# Altium footprint library con-3m.PCBLIB: 62 footprints (part 1 of 5)
Each footprint in its own frame and in the unit in brackets; x right, y up, seen from the top. Pads: shape width x height; smd on the part's side, far side on the other; paste and mask are expansions set on the pad; w line width, h text height; cw(c..) or ccw(c..) is an arc to the next point about the centre after c.
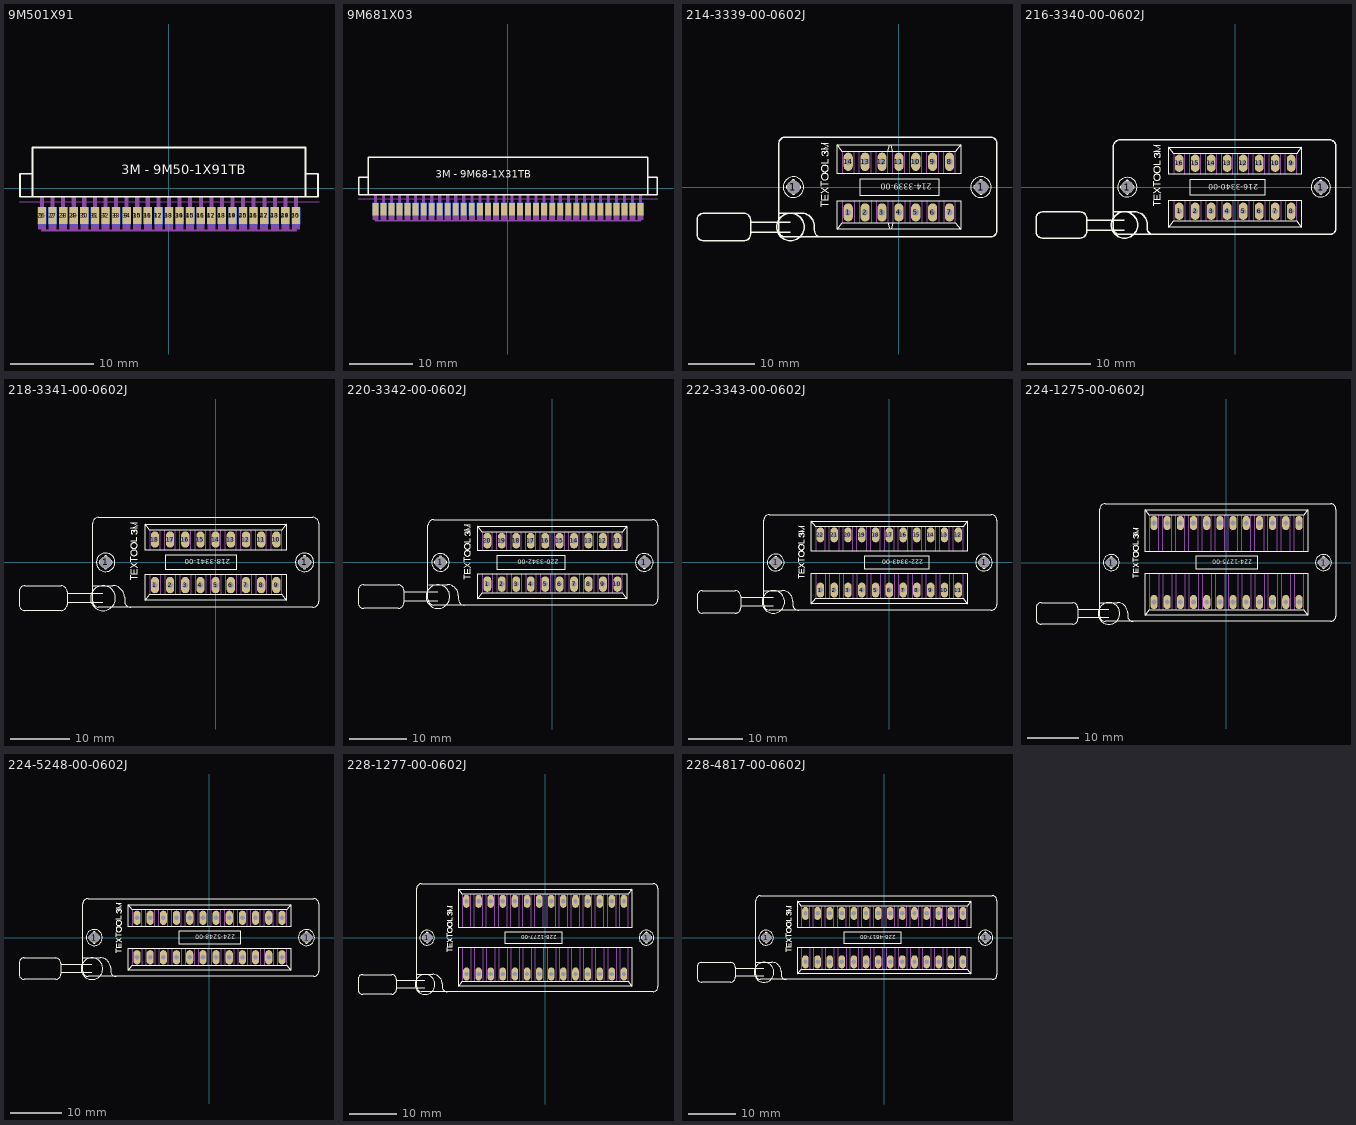
[diagram p0: the footprints below, top view; thin cyan lines are the x and y axes]

## 9M501X91 [mil]
pads (50):
  rect 39x80 smd: 1(-600,-129.53) 2(-550,-129.53) 3(-500,-129.53) 4(-450,-129.53) 5(-400,-129.53) 6(-350,-129.53) 7(-300,-129.53) 8(-250,-129.53) 9(-200,-129.53) 10(-150,-129.53) 11(-100,-129.53) 12(-50,-129.53) 13(0,-129.53) 14(50,-129.53) 15(100,-129.53) 16(150,-129.53) 17(200,-129.53) 18(250,-129.53) 19(300,-129.53) 20(350,-129.53) 21(400,-129.53) 22(450,-129.53) 23(500,-129.53) 24(550,-129.53) 25(600,-129.53)
  rect 39x80 smd far side: 26(-600,-129.53) 27(-550,-129.53) 28(-500,-129.53) 29(-450,-129.53) 30(-400,-129.53) 31(-350,-129.53) 32(-300,-129.53) 33(-250,-129.53) 34(-200,-129.53) 35(-150,-129.53) 36(-100,-129.53) 37(-50,-129.53) 38(0,-129.53) 39(50,-129.53) 40(100,-129.53) 41(150,-129.53) 42(200,-129.53) 43(250,-129.53) 44(300,-129.53) 45(350,-129.53) 46(400,-129.53) 47(450,-129.53) 48(500,-129.53) 49(550,-129.53) 50(600,-129.53)
Top Overlay:
  lines w8: -703.54,-39.76 -703.54,69 ; -702.76,-39.76 -644.49,-39.76 ; -702.76,69 -644.49,69 ; -644.49,193 -644.49,69 ; -643.7,193 644,193 ; 645,193 645,69 ; 703,-39.76 645,-39.76 ; 703,69 645,69 ; 704,-39.76 704,69 ; -644.49,-39.76 645,-39.76 ; -644.49,-39.76 -644.49,69 ; 645,-39.76 645,69
  text "3M - 9M50-1X91TB" at -225,50 h77.5
Mechanical 14:
  lines w2: -708.66,-63.78 709,-63.78
Mechanical 16:
  rectangle: -609.84,-169.69 -590.16,-41.73
  rectangle: -559.84,-169.69 -540.16,-41.73
  rectangle: -509.84,-169.69 -490.16,-41.73
  rectangle: -459.84,-169.69 -440.16,-41.73
  rectangle: -409.84,-169.69 -390.16,-41.73
  rectangle: -359.84,-169.69 -340.16,-41.73
  rectangle: -309.84,-169.69 -290.16,-41.73
  rectangle: -259.84,-169.69 -240.16,-41.73
  rectangle: -209.84,-169.69 -190.16,-41.73
  rectangle: -159.84,-169.69 -140.16,-41.73
  rectangle: -109.84,-169.69 -90.16,-41.73
  rectangle: -59.84,-169.69 -40.16,-41.73
  rectangle: -9.84,-169.69 10,-41.73
  rectangle: 41,-169.69 60,-41.73
  rectangle: 91,-169.69 110,-41.73
  rectangle: 141,-169.69 160,-41.73
  rectangle: 191,-169.69 210,-41.73
  rectangle: 241,-169.69 260,-41.73
  rectangle: 291,-169.69 310,-41.73
  rectangle: 341,-169.69 360,-41.73
  rectangle: 391,-169.69 410,-41.73
  rectangle: 441,-169.69 460,-41.73
  rectangle: 491,-169.69 510,-41.73
  rectangle: 541,-169.69 560,-41.73
  rectangle: 591,-169.69 610,-41.73
Mechanical 23:
  rectangle: -619,-196 -581,-90
  rectangle: -569,-196 -531,-90
  rectangle: -519,-196 -481,-90
  rectangle: -469,-196 -431,-90
  rectangle: -419,-196 -381,-90
  rectangle: -369,-196 -331,-90
  rectangle: -319,-196 -281,-90
  rectangle: -269,-196 -231,-90
  rectangle: -219,-196 -181,-90
  rectangle: -169,-196 -131,-90
  rectangle: -119,-196 -81,-90
  rectangle: -69,-196 -31,-90
  rectangle: -19,-196 19,-90
  rectangle: 31,-196 69,-90
  rectangle: 81,-196 119,-90
  rectangle: 131,-196 169,-90
  rectangle: 181,-196 219,-90
  rectangle: 231,-196 269,-90
  rectangle: 281,-196 319,-90
  rectangle: 331,-196 369,-90
  rectangle: 381,-196 419,-90
  rectangle: 431,-196 469,-90
  rectangle: 481,-196 519,-90
  rectangle: 531,-196 569,-90
  rectangle: 581,-196 619,-90
  lines w10: -600,-200 600,-200
Mechanical 24:
  rectangle: -619,-196 -581,-90
  rectangle: -569,-196 -531,-90
  rectangle: -519,-196 -481,-90
  rectangle: -469,-196 -431,-90
  rectangle: -419,-196 -381,-90
  rectangle: -369,-196 -331,-90
  rectangle: -319,-196 -281,-90
  rectangle: -269,-196 -231,-90
  rectangle: -219,-196 -181,-90
  rectangle: -169,-196 -131,-90
  rectangle: -119,-196 -81,-90
  rectangle: -69,-196 -31,-90
  rectangle: -19,-196 19,-90
  rectangle: 31,-196 69,-90
  rectangle: 81,-196 119,-90
  rectangle: 131,-196 169,-90
  rectangle: 181,-196 219,-90
  rectangle: 231,-196 269,-90
  rectangle: 281,-196 319,-90
  rectangle: 331,-196 369,-90
  rectangle: 381,-196 419,-90
  rectangle: 431,-196 469,-90
  rectangle: 481,-196 519,-90
  rectangle: 531,-196 569,-90
  rectangle: 581,-196 619,-90
  lines w10: -600,-200 600,-200
Mechanical 30:
  rectangle: -609.84,-169.69 -590.16,-41.73
  rectangle: -559.84,-169.69 -540.16,-41.73
  rectangle: -509.84,-169.69 -490.16,-41.73
  rectangle: -459.84,-169.69 -440.16,-41.73
  rectangle: -409.84,-169.69 -390.16,-41.73
  rectangle: -359.84,-169.69 -340.16,-41.73
  rectangle: -309.84,-169.69 -290.16,-41.73
  rectangle: -259.84,-169.69 -240.16,-41.73
  rectangle: -209.84,-169.69 -190.16,-41.73
  rectangle: -159.84,-169.69 -140.16,-41.73
  rectangle: -109.84,-169.69 -90.16,-41.73
  rectangle: -59.84,-169.69 -40.16,-41.73
  rectangle: -9.84,-169.69 10,-41.73
  rectangle: 41,-169.69 60,-41.73
  rectangle: 91,-169.69 110,-41.73
  rectangle: 141,-169.69 160,-41.73
  rectangle: 191,-169.69 210,-41.73
  rectangle: 241,-169.69 260,-41.73
  rectangle: 291,-169.69 310,-41.73
  rectangle: 341,-169.69 360,-41.73
  rectangle: 391,-169.69 410,-41.73
  rectangle: 441,-169.69 460,-41.73
  rectangle: 491,-169.69 510,-41.73
  rectangle: 541,-169.69 560,-41.73
  rectangle: 591,-169.69 610,-41.73

## 9M681X03 [mil]
pads (68):
  rect 36x80 smd: 1(-825,-129.53) 2(-775,-129.53) 3(-725,-129.53) 4(-675,-129.53) 5(-625,-129.53) 6(-575,-129.53) 7(-525,-129.53) 8(-475,-129.53) 9(-425,-129.53) 10(-375,-129.53) 11(-325,-129.53) 12(-275,-129.53) 13(-225,-129.53) 14(-175,-129.53) 15(-125,-129.53) 16(-75,-129.53) 17(-25,-129.53) 18(25,-129.53) 19(75,-129.53) 20(125,-129.53) 21(175,-129.53) 22(225,-129.53) 23(275,-129.53) 24(325,-129.53) 25(375,-129.53) 26(425,-129.53) 27(475,-129.53) 28(525,-129.53) 29(575,-129.53) 30(625,-129.53) 31(675,-129.53) 32(725,-129.53) 33(775,-129.53) 34(825,-129.53)
  rect 36x80 smd far side: 35(-825,-129.53) 36(-775,-129.53) 37(-725,-129.53) 38(-675,-129.53) 39(-625,-129.53) 40(-575,-129.53) 41(-525,-129.53) 42(-475,-129.53) 43(-425,-129.53) 44(-375,-129.53) 45(-325,-129.53) 46(-275,-129.53) 47(-225,-129.53) 48(-175,-129.53) 49(-125,-129.53) 50(-75,-129.53) 51(-25,-129.53) 52(25,-129.53) 53(75,-129.53) 54(125,-129.53) 55(175,-129.53) 56(225,-129.53) 57(275,-129.53) 58(325,-129.53) 59(375,-129.53) 60(425,-129.53) 61(475,-129.53) 62(525,-129.53) 63(575,-129.53) 64(625,-129.53) 65(675,-129.53) 66(725,-129.53) 67(775,-129.53) 68(825,-129.53)
Top Overlay:
  lines w8: -928.54,-39.76 -928.54,69 ; -927.76,-39.76 -869.49,-39.76 ; -927.76,69 -869.49,69 ; -869.49,193 -869.49,69 ; -868.7,193 869,193 ; 870,193 870,69 ; 928,-39.76 870,-39.76 ; 928,69 870,69 ; 929,-39.76 929,69 ; -869.49,-39.76 870,-39.76 ; -869.49,-39.76 -869.49,69 ; 870,-39.76 870,69
  text "3M - 9M68-1X31TB" at -450,50 h77.5
Mechanical 14:
  lines w2: -933.66,-63.78 934,-63.78
Mechanical 16:
  rectangle: -834.84,-169.69 -815.16,-41.73
  rectangle: -784.84,-169.69 -765.16,-41.73
  rectangle: -734.84,-169.69 -715.16,-41.73
  rectangle: -684.84,-169.69 -665.16,-41.73
  rectangle: -634.84,-169.69 -615.16,-41.73
  rectangle: -584.84,-169.69 -565.16,-41.73
  rectangle: -534.84,-169.69 -515.16,-41.73
  rectangle: -484.84,-169.69 -465.16,-41.73
  rectangle: -434.84,-169.69 -415.16,-41.73
  rectangle: -384.84,-169.69 -365.16,-41.73
  rectangle: -334.84,-169.69 -315.16,-41.73
  rectangle: -284.84,-169.69 -265.16,-41.73
  rectangle: -234.84,-169.69 -215.16,-41.73
  rectangle: -184.84,-169.69 -165.16,-41.73
  rectangle: -134.84,-169.69 -115.16,-41.73
  rectangle: -84.84,-169.69 -65.16,-41.73
  rectangle: -34.84,-169.69 -15.16,-41.73
  rectangle: 16,-169.69 35,-41.73
  rectangle: 66,-169.69 85,-41.73
  rectangle: 116,-169.69 135,-41.73
  rectangle: 166,-169.69 185,-41.73
  rectangle: 216,-169.69 235,-41.73
  rectangle: 266,-169.69 285,-41.73
  rectangle: 316,-169.69 335,-41.73
  rectangle: 366,-169.69 385,-41.73
  rectangle: 416,-169.69 435,-41.73
  rectangle: 466,-169.69 485,-41.73
  rectangle: 516,-169.69 535,-41.73
  rectangle: 566,-169.69 585,-41.73
  rectangle: 616,-169.69 635,-41.73
  rectangle: 666,-169.69 685,-41.73
  rectangle: 716,-169.69 735,-41.73
  rectangle: 766,-169.69 785,-41.73
  rectangle: 816,-169.69 835,-41.73
Mechanical 23:
  rectangle: -844,-196 -806,-90
  rectangle: -794,-196 -756,-90
  rectangle: -744,-196 -706,-90
  rectangle: -694,-196 -656,-90
  rectangle: -644,-196 -606,-90
  rectangle: -594,-196 -556,-90
  rectangle: -544,-196 -506,-90
  rectangle: -494,-196 -456,-90
  rectangle: -444,-196 -406,-90
  rectangle: -394,-196 -356,-90
  rectangle: -344,-196 -306,-90
  rectangle: -294,-196 -256,-90
  rectangle: -244,-196 -206,-90
  rectangle: -194,-196 -156,-90
  rectangle: -144,-196 -106,-90
  rectangle: -94,-196 -56,-90
  rectangle: -44,-196 -6,-90
  rectangle: 6,-196 44,-90
  rectangle: 56,-196 94,-90
  rectangle: 106,-196 144,-90
  rectangle: 156,-196 194,-90
  rectangle: 206,-196 244,-90
  rectangle: 256,-196 294,-90
  rectangle: 306,-196 344,-90
  rectangle: 356,-196 394,-90
  rectangle: 406,-196 444,-90
  rectangle: 456,-196 494,-90
  rectangle: 506,-196 544,-90
  rectangle: 556,-196 594,-90
  rectangle: 606,-196 644,-90
  rectangle: 656,-196 694,-90
  rectangle: 706,-196 744,-90
  rectangle: 756,-196 794,-90
  rectangle: 806,-196 844,-90
  lines w10: -825,-200 825,-200
Mechanical 24:
  rectangle: -844,-196 -806,-90
  rectangle: -794,-196 -756,-90
  rectangle: -744,-196 -706,-90
  rectangle: -694,-196 -656,-90
  rectangle: -644,-196 -606,-90
  rectangle: -594,-196 -556,-90
  rectangle: -544,-196 -506,-90
  rectangle: -494,-196 -456,-90
  rectangle: -444,-196 -406,-90
  rectangle: -394,-196 -356,-90
  rectangle: -344,-196 -306,-90
  rectangle: -294,-196 -256,-90
  rectangle: -244,-196 -206,-90
  rectangle: -194,-196 -156,-90
  rectangle: -144,-196 -106,-90
  rectangle: -94,-196 -56,-90
  rectangle: -44,-196 -6,-90
  rectangle: 6,-196 44,-90
  rectangle: 56,-196 94,-90
  rectangle: 106,-196 144,-90
  rectangle: 156,-196 194,-90
  rectangle: 206,-196 244,-90
  rectangle: 256,-196 294,-90
  rectangle: 306,-196 344,-90
  rectangle: 356,-196 394,-90
  rectangle: 406,-196 444,-90
  rectangle: 456,-196 494,-90
  rectangle: 506,-196 544,-90
  rectangle: 556,-196 594,-90
  rectangle: 606,-196 644,-90
  rectangle: 656,-196 694,-90
  rectangle: 706,-196 744,-90
  rectangle: 756,-196 794,-90
  rectangle: 806,-196 844,-90
  lines w10: -825,-200 825,-200
Mechanical 30:
  rectangle: 816,-169.69 835,-41.73
  rectangle: 766,-169.69 785,-41.73
  rectangle: 716,-169.69 735,-41.73
  rectangle: 666,-169.69 685,-41.73
  rectangle: 616,-169.69 635,-41.73
  rectangle: 566,-169.69 585,-41.73
  rectangle: 516,-169.69 535,-41.73
  rectangle: 466,-169.69 485,-41.73
  rectangle: 416,-169.69 435,-41.73
  rectangle: 366,-169.69 385,-41.73
  rectangle: 316,-169.69 335,-41.73
  rectangle: 266,-169.69 285,-41.73
  rectangle: 216,-169.69 235,-41.73
  rectangle: 166,-169.69 185,-41.73
  rectangle: 116,-169.69 135,-41.73
  rectangle: 66,-169.69 85,-41.73
  rectangle: 16,-169.69 35,-41.73
  rectangle: -34.84,-169.69 -15.16,-41.73
  rectangle: -84.84,-169.69 -65.16,-41.73
  rectangle: -134.84,-169.69 -115.16,-41.73
  rectangle: -184.84,-169.69 -165.16,-41.73
  rectangle: -234.84,-169.69 -215.16,-41.73
  rectangle: -284.84,-169.69 -265.16,-41.73
  rectangle: -334.84,-169.69 -315.16,-41.73
  rectangle: -384.84,-169.69 -365.16,-41.73
  rectangle: -434.84,-169.69 -415.16,-41.73
  rectangle: -484.84,-169.69 -465.16,-41.73
  rectangle: -534.84,-169.69 -515.16,-41.73
  rectangle: -584.84,-169.69 -565.16,-41.73
  rectangle: -634.84,-169.69 -615.16,-41.73
  rectangle: -684.84,-169.69 -665.16,-41.73
  rectangle: -734.84,-169.69 -715.16,-41.73
  rectangle: -784.84,-169.69 -765.16,-41.73
  rectangle: -834.84,-169.69 -815.16,-41.73

## 214-3339-00-0602J [mil]
pads (16):
  round 79 hole 79: 1(-624.02,0) 1(487,0)
  oval 54x108 hole 36: 1(-300,-150) 2(-200,-150) 3(-100,-150) 4(0,-150) 5(100,-150) 6(200,-150) 7(300,-150) 8(300,150) 9(200,150) 10(100,150) 11(0,150) 12(-100,150) 13(-200,150) 14(-300,150)
Top Overlay:
  circle w4: c-624.41,0 r61
  circle w8: c-641.73,-236.22 r82
  circle w4: c486,0 r61
  lines w4: -633.86,-11.81 ccw(c-636.61,-11.81) -636.61,-9.06 -657.87,-9.06 cw(c-657.87,0) -666.93,0 cw(c-657.4,0.47) -657.87,10 -636.22,10 ccw(c-635.84,12.38) -633.46,12 ; -633.46,-11.81 -633.46,-33.46 ccw(c-624.41,-33.46) -624.41,-42.52 ccw(c-624.41,-33.46) -615.35,-33.46 -615.35,-12.2 ; -633.46,13 -633.46,34 cw(c-624.44,33.97) -624.41,43 cw(c-624.38,33.97) -615.35,34 -615.35,12 ccw(c-612.98,12.38) -612.6,10 ; -615.35,-11.81 cw(c-612.6,-11.81) -612.6,-9.06 -590.94,-9.06 ccw(c-590.94,0) -581.89,0 ccw(c-591.42,0.47) -590.94,10 -612.2,10 ; -459.45,143 -418.11,143 -418.11,165 ; -458.66,-115.75 -458.66,-84.65 ; -458.66,-46.46 -458.66,-74.02 -417.72,-74.02 -417.72,-45.28 ; -458.66,-33.07 -417.72,-4.72 ; -458.66,-4.72 -417.72,-33.07 ; -458.66,5 -458.66,36 ; -458.27,-100 -417.72,-100 ; -457.87,21 -417.72,21 ; -447.24,188 cw(c-444.51,200.38) -457.09,202 cw(c-448.77,200.56) -452.76,208 cw(c-446.45,198) -442.13,209 cw(c-445.01,201.96) -437.4,202 ; -438.58,-72.44 -438.58,-48.82 ; -437.4,199 -437.4,202 ; -426.77,187 ccw(c-426.47,195.96) -417.72,194 ccw(c-441.96,199.2) -417.32,202 ccw(c-429.13,200.78) -421.65,210 ccw(c-427.17,202) -432.68,210 ccw(c-428.04,201.87) -437.4,202 ; -417.72,223 -458.27,223 -417.72,242 -458.66,261 -417.72,261 ; 477,12 cw(c475,12) 475,10 453,10 ccw(c453.5,0.5) 444,0 ccw(c453.03,-0.03) 453,-9.06 474,-9.06 cw(c474.12,-11.93) 477,-11.81 477,-33.46 ccw(c486.03,-33.49) 486,-42.52 ccw(c485.97,-33.49) 495,-33.46 495,-12.2 ; 477,13 477,34 cw(c486,34) 486,43 cw(c486,34) 495,34 495,12 ccw(c497.5,12.5) 498,10 ; 495,-11.81 cw(c497.88,-11.93) 498,-9.06 520,-9.06 ccw(c519.97,-0.03) 529,0 ccw(c519.5,0.5) 520,10 499,10 ; -365,-250 -55,-250 ; -365,-250 -365,-80 365,-80 365,-250 ; -365,-250 -335,-210 -65,-210 ; -365,250 -365,80 365,80 365,250 ; -365,250 -55,250 ; -365,250 -335,210 -65,210 ; -65,-210 -35,-210 ; -65,-210 -55,-250 ; -65,210 -35,210 ; -65,210 -55,250 ; -55,-250 -45,-250 ; -55,250 -45,250 ; -45,-250 365,-250 ; -45,-250 -35,-210 ; -45,250 365,250 ; -45,250 -35,210 ; -35,-210 335,-210 365,-250 ; -35,210 335,210 365,250 ; -440.55,44 cw(c-440.55,62.5) -440.55,81 -435.43,81 cw(c-435.43,62.5) -435.43,44 -440.55,44 ; -440.55,92 cw(c-440.55,110.5) -440.55,129 -435.43,129 cw(c-435.43,110.5) -435.43,92 -440.55,92 ; -230,-50 235,-50 235,50 -230,50 -230,-50
  lines w8: -876.38,-267.72 -643.7,-267.72 ; -876.38,-206.69 -643.7,-206.69 ; -706.69,-153.54 -578.74,-153.54 cw(c-578.74,-232.31) -500,-230.31 -500,-255.91 ccw(c-460.58,-255.91) -458.66,-295.28 ; -1195.28,-278.35 -1195.28,-194.09 cw(c-1155.91,-194.09) -1155.91,-154.72 -917.72,-154.72 cw(c-917.72,-194.09) -878.35,-194.09 -878.35,-278.35 cw(c-917.72,-278.35) -917.72,-317.72 -1155.91,-317.72 cw(c-1155.91,-278.35) -1195.28,-278.35 ; -711.02,-255.91 ccw(c-671.65,-255.91) -671.65,-295.28 541,-295.28 ccw(c541.32,-255.59) 581,-255.91 581,256 ccw(c541,256) 541,296 -671.65,296 ccw(c-671.34,256.31) -711.02,256 -711.02,-255.91
  text "214-3339-00" at 195,20 h34
Mechanical 16:
  lines w4: -335,-210 -335,-80 ; -335,80 -335,210 ; -265,-210 -265,-80 ; -265,80 -265,210 ; -235,-210 -235,-80 ; -235,80 -235,210 ; -165,-210 -165,-80 ; -165,80 -165,210 ; -135,-210 -135,-80 ; -135,80 -135,210 ; -65,-210 -65,-80 ; -65,80 -65,210 ; -35,-210 -35,-80 ; -35,80 -35,210 ; 35,-210 35,-80 ; 35,80 35,210 ; 65,-210 65,-80 ; 65,80 65,210 ; 135,-210 135,-80 ; 135,80 135,210 ; 165,-210 165,-80 ; 165,80 165,210 ; 235,-210 235,-80 ; 235,80 235,210 ; 265,-210 265,-80 ; 265,80 265,210 ; 335,-210 335,-80 ; 335,80 335,210

## 216-3340-00-0602J [mil]
pads (18):
  round 79 hole 79: 1(-674.02,0) 1(537,0)
  oval 54x108 hole 36: 1(-350,-150) 2(-250,-150) 3(-150,-150) 4(-50,-150) 5(50,-150) 6(150,-150) 7(250,-150) 8(350,-150) 9(350,150) 10(250,150) 11(150,150) 12(50,150) 13(-50,150) 14(-150,150) 15(-250,150) 16(-350,150)
Top Overlay:
  circle w4: c-674.41,0 r61
  circle w8: c-691.73,-236.22 r82
  circle w4: c536,0 r61
  lines w4: -683.86,-11.81 ccw(c-686.61,-11.81) -686.61,-9.06 -707.87,-9.06 cw(c-707.87,0) -716.93,0 cw(c-707.4,0.47) -707.87,10 -686.22,10 ccw(c-685.84,12.38) -683.46,12 ; -683.46,-11.81 -683.46,-33.46 ccw(c-674.41,-33.46) -674.41,-42.52 ccw(c-674.41,-33.46) -665.35,-33.46 -665.35,-12.2 ; -683.46,13 -683.46,34 cw(c-674.44,33.97) -674.41,43 cw(c-674.38,33.97) -665.35,34 -665.35,12 ccw(c-662.98,12.38) -662.6,10 ; -665.35,-11.81 cw(c-662.6,-11.81) -662.6,-9.06 -640.94,-9.06 ccw(c-640.94,0) -631.89,0 ccw(c-641.42,0.47) -640.94,10 -662.2,10 ; -509.45,143 -468.11,143 -468.11,165 ; -508.66,-115.75 -508.66,-84.65 ; -508.66,-46.46 -508.66,-74.02 -467.72,-74.02 -467.72,-45.28 ; -508.66,-33.07 -467.72,-4.72 ; -508.66,-4.72 -467.72,-33.07 ; -508.66,5 -508.66,36 ; -508.27,-100 -467.72,-100 ; -507.87,21 -467.72,21 ; -497.24,188 cw(c-494.51,200.38) -507.09,202 cw(c-498.77,200.56) -502.76,208 cw(c-496.45,197.98) -492.13,209 cw(c-495.01,201.96) -487.4,202 ; -488.58,-72.44 -488.58,-48.82 ; -487.4,199 -487.4,202 ; -476.77,187 ccw(c-476.46,195.96) -467.72,194 ccw(c-491.96,199.2) -467.32,202 ccw(c-479.13,200.78) -471.65,210 ccw(c-477.17,202.01) -482.68,210 ccw(c-478.04,201.87) -487.4,202 ; -467.72,223 -508.27,223 -467.72,242 -508.66,261 -467.72,261 ; 527,12 cw(c525,12) 525,10 503,10 ccw(c503.5,0.5) 494,0 ccw(c503.03,-0.03) 503,-9.06 524,-9.06 cw(c524.12,-11.93) 527,-11.81 527,-33.46 ccw(c536.03,-33.49) 536,-42.52 ccw(c535.97,-33.49) 545,-33.46 545,-12.2 ; 527,13 527,34 cw(c536,34) 536,43 cw(c536,34) 545,34 545,12 ccw(c547.5,12.5) 548,10 ; 545,-11.81 cw(c547.88,-11.93) 548,-9.06 570,-9.06 ccw(c569.97,-0.03) 579,0 ccw(c569.5,0.5) 570,10 549,10 ; -415,-250 415,-250 ; -415,-250 -415,-80 415,-80 415,-250 ; -415,-250 -385,-210 385,-210 415,-250 ; -415,250 -415,80 415,80 415,250 ; -415,250 415,250 ; -415,250 -385,210 385,210 415,250 ; -490.55,44 cw(c-490.55,62.5) -490.55,81 -485.43,81 cw(c-485.43,62.5) -485.43,44 -490.55,44 ; -490.55,92 cw(c-490.55,110.5) -490.55,129 -485.43,129 cw(c-485.43,110.5) -485.43,92 -490.55,92 ; -280,-50 185,-50 185,50 -280,50 -280,-50
  lines w8: -926.38,-267.72 -693.7,-267.72 ; -926.38,-206.69 -693.7,-206.69 ; -756.69,-153.54 -628.74,-153.54 cw(c-628.74,-232.31) -550,-230.31 -550,-255.91 ccw(c-510.58,-255.91) -508.66,-295.28 ; -1245.28,-278.35 -1245.28,-194.09 cw(c-1205.91,-194.09) -1205.91,-154.72 -967.72,-154.72 cw(c-967.72,-194.09) -928.35,-194.09 -928.35,-278.35 cw(c-967.72,-278.35) -967.72,-317.72 -1205.91,-317.72 cw(c-1205.91,-278.35) -1245.28,-278.35 ; -761.02,-255.91 ccw(c-721.65,-255.91) -721.65,-295.28 591,-295.28 ccw(c591.32,-255.59) 631,-255.91 631,256 ccw(c591,256) 591,296 -721.65,296 ccw(c-721.34,256.31) -761.02,256 -761.02,-255.91
  text "216-3340-00" at 145,20 h34
Mechanical 16:
  lines w4: -385,-210 -385,-80 ; -385,80 -385,210 ; -315,-210 -315,-80 ; -315,80 -315,210 ; -285,-210 -285,-80 ; -285,80 -285,210 ; -215,-210 -215,-80 ; -215,80 -215,210 ; -185,-210 -185,-80 ; -185,80 -185,210 ; -115,-210 -115,-80 ; -115,80 -115,210 ; -85,-210 -85,-80 ; -85,80 -85,210 ; -15,-210 -15,-80 ; -15,80 -15,210 ; 15,-210 15,-80 ; 15,80 15,210 ; 85,-210 85,-80 ; 85,80 85,210 ; 115,-210 115,-80 ; 115,80 115,210 ; 185,-210 185,-80 ; 185,80 185,210 ; 215,-210 215,-80 ; 215,80 215,210 ; 285,-210 285,-80 ; 285,80 285,210 ; 315,-210 315,-80 ; 315,80 315,210 ; 385,-210 385,-80 ; 385,80 385,210

## 218-3341-00-0602J [mil]
pads (20):
  round 79 hole 79: 1(-724.02,0) 1(587,0)
  oval 54x108 hole 36: 1(-400,-150) 2(-300,-150) 3(-200,-150) 4(-100,-150) 5(0,-150) 6(100,-150) 7(200,-150) 8(300,-150) 9(400,-150) 10(400,150) 11(300,150) 12(200,150) 13(100,150) 14(0,150) 15(-100,150) 16(-200,150) 17(-300,150) 18(-400,150)
Top Overlay:
  circle w4: c-724.41,0 r61
  circle w8: c-741.73,-236.22 r82
  circle w4: c586,0 r61
  lines w4: -733.86,-11.81 ccw(c-736.61,-11.81) -736.61,-9.06 -757.87,-9.06 cw(c-757.87,0) -766.93,0 cw(c-757.4,0.47) -757.87,10 -736.22,10 ccw(c-735.84,12.38) -733.46,12 ; -733.46,-11.81 -733.46,-33.46 ccw(c-724.41,-33.46) -724.41,-42.52 ccw(c-724.41,-33.46) -715.35,-33.46 -715.35,-12.2 ; -733.46,13 -733.46,34 cw(c-724.44,33.97) -724.41,43 cw(c-724.38,33.97) -715.35,34 -715.35,12 ccw(c-712.98,12.38) -712.6,10 ; -715.35,-11.81 cw(c-712.6,-11.81) -712.6,-9.06 -690.94,-9.06 ccw(c-690.94,0) -681.89,0 ccw(c-691.42,0.47) -690.94,10 -712.2,10 ; -559.45,143 -518.11,143 -518.11,165 ; -558.66,-115.75 -558.66,-84.65 ; -558.66,-46.46 -558.66,-74.02 -517.72,-74.02 -517.72,-45.28 ; -558.66,-33.07 -517.72,-4.72 ; -558.66,-4.72 -517.72,-33.07 ; -558.66,5 -558.66,36 ; -558.27,-100 -517.72,-100 ; -557.87,21 -517.72,21 ; -547.24,188 cw(c-544.51,200.38) -557.09,202 cw(c-548.77,200.56) -552.76,208 cw(c-546.45,197.98) -542.13,209 cw(c-545.01,201.96) -537.4,202 ; -538.58,-72.44 -538.58,-48.82 ; -537.4,199 -537.4,202 ; -526.77,187 ccw(c-526.46,195.96) -517.72,194 ccw(c-541.96,199.2) -517.32,202 ccw(c-529.13,200.78) -521.65,210 ccw(c-527.17,202.01) -532.68,210 ccw(c-528.04,201.87) -537.4,202 ; -517.72,223 -558.27,223 -517.72,242 -558.66,261 -517.72,261 ; 577,12 cw(c575,12) 575,10 553,10 ccw(c553.5,0.5) 544,0 ccw(c553.03,-0.03) 553,-9.06 574,-9.06 cw(c574.12,-11.93) 577,-11.81 577,-33.46 ccw(c586.03,-33.49) 586,-42.52 ccw(c585.97,-33.49) 595,-33.46 595,-12.2 ; 577,13 577,34 cw(c586,34) 586,43 cw(c586,34) 595,34 595,12 ccw(c597.5,12.5) 598,10 ; 595,-11.81 cw(c597.88,-11.93) 598,-9.06 620,-9.06 ccw(c619.97,-0.03) 629,0 ccw(c619.5,0.5) 620,10 599,10 ; -465,-250 465,-250 ; -465,-250 -465,-80 465,-80 465,-250 ; -465,-250 -435,-210 435,-210 465,-250 ; -465,250 -465,80 465,80 465,250 ; -465,250 465,250 ; -465,250 -435,210 435,210 465,250 ; -540.55,44 cw(c-540.55,62.5) -540.55,81 -535.43,81 cw(c-535.43,62.5) -535.43,44 -540.55,44 ; -540.55,92 cw(c-540.55,110.5) -540.55,129 -535.43,129 cw(c-535.43,110.5) -535.43,92 -540.55,92 ; -330,-50 135,-50 135,50 -330,50 -330,-50
  lines w8: -976.38,-267.72 -743.7,-267.72 ; -976.38,-206.69 -743.7,-206.69 ; -806.69,-153.54 -678.74,-153.54 cw(c-678.74,-232.31) -600,-230.31 -600,-255.91 ccw(c-560.58,-255.91) -558.66,-295.28 ; -1295.28,-278.35 -1295.28,-194.09 cw(c-1255.91,-194.09) -1255.91,-154.72 -1017.72,-154.72 cw(c-1017.72,-194.09) -978.35,-194.09 -978.35,-278.35 cw(c-1017.72,-278.35) -1017.72,-317.72 -1255.91,-317.72 cw(c-1255.91,-278.35) -1295.28,-278.35 ; -811.02,-255.91 ccw(c-771.65,-255.91) -771.65,-295.28 641,-295.28 ccw(c641.32,-255.59) 681,-255.91 681,256 ccw(c641,256) 641,296 -771.65,296 ccw(c-771.34,256.31) -811.02,256 -811.02,-255.91
  text "218-3341-00" at 95,20 h34
Mechanical 16:
  lines w4: -435,-210 -435,-80 ; -435,80 -435,210 ; -365,-210 -365,-80 ; -365,80 -365,210 ; -335,-210 -335,-80 ; -335,80 -335,210 ; -265,-210 -265,-80 ; -265,80 -265,210 ; -235,-210 -235,-80 ; -235,80 -235,210 ; -165,-210 -165,-80 ; -165,80 -165,210 ; -135,-210 -135,-80 ; -135,80 -135,210 ; -65,-210 -65,-80 ; -65,80 -65,210 ; -35,-210 -35,-80 ; -35,80 -35,210 ; 35,-210 35,-80 ; 35,80 35,210 ; 65,-210 65,-80 ; 65,80 65,210 ; 135,-210 135,-80 ; 135,80 135,210 ; 165,-210 165,-80 ; 165,80 165,210 ; 235,-210 235,-80 ; 235,80 235,210 ; 265,-210 265,-80 ; 265,80 265,210 ; 335,-210 335,-80 ; 335,80 335,210 ; 365,-210 365,-80 ; 365,80 365,210 ; 435,-210 435,-80 ; 435,80 435,210

## 220-3342-00-0602J [mil]
pads (22):
  round 79 hole 79: 1(-774.02,0) 1(637,0)
  oval 54x108 hole 36: 1(-450,-150) 2(-350,-150) 3(-250,-150) 4(-150,-150) 5(-50,-150) 6(50,-150) 7(150,-150) 8(250,-150) 9(350,-150) 10(450,-150) 11(450,150) 12(350,150) 13(250,150) 14(150,150) 15(50,150) 16(-50,150) 17(-150,150) 18(-250,150) 19(-350,150) 20(-450,150)
Top Overlay:
  circle w4: c-774.41,0 r61
  circle w8: c-791.73,-236.22 r82
  circle w4: c636,0 r61
  lines w4: -783.86,-11.81 ccw(c-786.61,-11.81) -786.61,-9.06 -807.87,-9.06 cw(c-807.87,0) -816.93,0 cw(c-807.4,0.47) -807.87,10 -786.22,10 ccw(c-785.84,12.38) -783.46,12 ; -783.46,-11.81 -783.46,-33.46 ccw(c-774.41,-33.46) -774.41,-42.52 ccw(c-774.41,-33.46) -765.35,-33.46 -765.35,-12.2 ; -783.46,13 -783.46,34 cw(c-774.44,33.97) -774.41,43 cw(c-774.38,33.97) -765.35,34 -765.35,12 ccw(c-762.98,12.38) -762.6,10 ; -765.35,-11.81 cw(c-762.6,-11.81) -762.6,-9.06 -740.94,-9.06 ccw(c-740.94,0) -731.89,0 ccw(c-741.42,0.47) -740.94,10 -762.2,10 ; -609.45,143 -568.11,143 -568.11,165 ; -608.66,-115.75 -608.66,-84.65 ; -608.66,-46.46 -608.66,-74.02 -567.72,-74.02 -567.72,-45.28 ; -608.66,-33.07 -567.72,-4.72 ; -608.66,-4.72 -567.72,-33.07 ; -608.66,5 -608.66,36 ; -608.27,-100 -567.72,-100 ; -607.87,21 -567.72,21 ; -597.24,188 cw(c-594.51,200.38) -607.09,202 cw(c-598.77,200.56) -602.76,208 cw(c-596.45,197.98) -592.13,209 cw(c-595.01,201.96) -587.4,202 ; -588.58,-72.44 -588.58,-48.82 ; -587.4,199 -587.4,202 ; -576.77,187 ccw(c-576.46,195.96) -567.72,194 ccw(c-591.96,199.2) -567.32,202 ccw(c-579.13,200.78) -571.65,210 ccw(c-577.17,202.01) -582.68,210 ccw(c-578.04,201.87) -587.4,202 ; -567.72,223 -608.27,223 -567.72,242 -608.66,261 -567.72,261 ; 627,12 cw(c625,12) 625,10 603,10 ccw(c603.5,0.5) 594,0 ccw(c603.03,-0.03) 603,-9.06 624,-9.06 cw(c624.12,-11.93) 627,-11.81 627,-33.46 ccw(c636.03,-33.49) 636,-42.52 ccw(c635.97,-33.49) 645,-33.46 645,-12.2 ; 627,13 627,34 cw(c636,34) 636,43 cw(c636,34) 645,34 645,12 ccw(c647.5,12.5) 648,10 ; 645,-11.81 cw(c647.88,-11.93) 648,-9.06 670,-9.06 ccw(c669.97,-0.03) 679,0 ccw(c669.5,0.5) 670,10 649,10 ; -515,-250 515,-250 ; -515,-250 -515,-80 515,-80 515,-250 ; -515,-250 -485,-210 485,-210 515,-250 ; -515,250 -515,80 515,80 515,250 ; -515,250 515,250 ; -515,250 -485,210 485,210 515,250 ; -590.55,44 cw(c-590.55,62.5) -590.55,81 -585.43,81 cw(c-585.43,62.5) -585.43,44 -590.55,44 ; -590.55,92 cw(c-590.55,110.5) -590.55,129 -585.43,129 cw(c-585.43,110.5) -585.43,92 -590.55,92 ; -380,-50 85,-50 85,50 -380,50 -380,-50
  lines w8: -1026.38,-267.72 -793.7,-267.72 ; -1026.38,-206.69 -793.7,-206.69 ; -856.69,-153.54 -728.74,-153.54 cw(c-728.74,-232.31) -650,-230.31 -650,-255.91 ccw(c-610.58,-255.91) -608.66,-295.28 ; -1345.28,-278.35 -1345.28,-194.09 cw(c-1305.91,-194.09) -1305.91,-154.72 -1067.72,-154.72 cw(c-1067.72,-194.09) -1028.35,-194.09 -1028.35,-278.35 cw(c-1067.72,-278.35) -1067.72,-317.72 -1305.91,-317.72 cw(c-1305.91,-278.35) -1345.28,-278.35 ; -861.02,-255.91 ccw(c-821.65,-255.91) -821.65,-295.28 691,-295.28 ccw(c691.32,-255.59) 731,-255.91 731,256 ccw(c691,256) 691,296 -821.65,296 ccw(c-821.34,256.31) -861.02,256 -861.02,-255.91
  text "220-3342-00" at 45,20 h34
Mechanical 16:
  lines w4: -485,-210 -485,-80 ; -485,80 -485,210 ; -415,-210 -415,-80 ; -415,80 -415,210 ; -385,-210 -385,-80 ; -385,80 -385,210 ; -315,-210 -315,-80 ; -315,80 -315,210 ; -285,-210 -285,-80 ; -285,80 -285,210 ; -215,-210 -215,-80 ; -215,80 -215,210 ; -185,-210 -185,-80 ; -185,80 -185,210 ; -115,-210 -115,-80 ; -115,80 -115,210 ; -85,-210 -85,-80 ; -85,80 -85,210 ; -15,-210 -15,-80 ; -15,80 -15,210 ; 15,-210 15,-80 ; 15,80 15,210 ; 85,-210 85,-80 ; 85,80 85,210 ; 115,-210 115,-80 ; 115,80 115,210 ; 185,-210 185,-80 ; 185,80 185,210 ; 215,-210 215,-80 ; 215,80 215,210 ; 285,-210 285,-80 ; 285,80 285,210 ; 315,-210 315,-80 ; 315,80 315,210 ; 385,-210 385,-80 ; 385,80 385,210 ; 415,-210 415,-80 ; 415,80 415,210 ; 485,-210 485,-80 ; 485,80 485,210

## 222-3343-00-0602J [mil]
pads (24):
  round 79 hole 79: 1(-824.02,0) 1(687,0)
  oval 54x108 hole 36: 1(-500,-200) 2(-400,-200) 3(-300,-200) 4(-200,-200) 5(-100,-200) 6(0,-200) 7(100,-200) 8(200,-200) 9(300,-200) 10(400,-200) 11(500,-200) 12(500,200) 13(400,200) 14(300,200) 15(200,200) 16(100,200) 17(0,200) 18(-100,200) 19(-200,200) 20(-300,200) 21(-400,200) 22(-500,200)
Top Overlay:
  circle w4: c-824.41,0 r61
  circle w8: c-841.73,-286.22 r82
  circle w4: c686,0 r61
  lines w4: -833.86,-11.81 ccw(c-836.61,-11.81) -836.61,-9.06 -857.87,-9.06 cw(c-857.87,0) -866.93,0 cw(c-857.4,0.47) -857.87,10 -836.22,10 ccw(c-835.84,12.38) -833.46,12 ; -833.46,-11.81 -833.46,-33.46 ccw(c-824.41,-33.46) -824.41,-42.52 ccw(c-824.41,-33.46) -815.35,-33.46 -815.35,-12.2 ; -833.46,13 -833.46,34 cw(c-824.44,33.97) -824.41,43 cw(c-824.38,33.97) -815.35,34 -815.35,12 ccw(c-812.98,12.38) -812.6,10 ; -815.35,-11.81 cw(c-812.6,-11.81) -812.6,-9.06 -790.94,-9.06 ccw(c-790.94,0) -781.89,0 ccw(c-791.42,0.47) -790.94,10 -812.2,10 ; -659.45,143 -618.11,143 -618.11,165 ; -658.66,-115.75 -658.66,-84.65 ; -658.66,-46.46 -658.66,-74.02 -617.72,-74.02 -617.72,-45.28 ; -658.66,-33.07 -617.72,-4.72 ; -658.66,-4.72 -617.72,-33.07 ; -658.66,5 -658.66,36 ; -658.27,-100 -617.72,-100 ; -657.87,21 -617.72,21 ; -647.24,188 cw(c-644.51,200.38) -657.09,202 cw(c-648.77,200.56) -652.76,208 cw(c-646.45,197.98) -642.13,209 cw(c-645.01,201.96) -637.4,202 ; -638.58,-72.44 -638.58,-48.82 ; -637.4,199 -637.4,202 ; -626.77,187 ccw(c-626.46,195.96) -617.72,194 ccw(c-641.96,199.2) -617.32,202 ccw(c-629.13,200.78) -621.65,210 ccw(c-627.17,202.01) -632.68,210 ccw(c-628.04,201.87) -637.4,202 ; -617.72,223 -658.27,223 -617.72,242 -658.66,261 -617.72,261 ; 677,12 cw(c675,12) 675,10 653,10 ccw(c653.5,0.5) 644,0 ccw(c653.03,-0.03) 653,-9.06 674,-9.06 cw(c674.12,-11.93) 677,-11.81 677,-33.46 ccw(c686.03,-33.49) 686,-42.52 ccw(c685.97,-33.49) 695,-33.46 695,-12.2 ; 677,13 677,34 cw(c686,34) 686,43 cw(c686,34) 695,34 695,12 ccw(c697.5,12.5) 698,10 ; 695,-11.81 cw(c697.88,-11.93) 698,-9.06 720,-9.06 ccw(c719.97,-0.03) 729,0 ccw(c719.5,0.5) 720,10 699,10 ; -565,-300 565,-300 ; -565,-300 -565,-80 565,-80 565,-300 ; -565,-300 -535,-260 535,-260 565,-300 ; -565,300 -565,80 565,80 565,300 ; -565,300 565,300 ; -565,300 -535,260 535,260 565,300 ; -640.55,44 cw(c-640.55,62.5) -640.55,81 -635.43,81 cw(c-635.43,62.5) -635.43,44 -640.55,44 ; -640.55,92 cw(c-640.55,110.5) -640.55,129 -635.43,129 cw(c-635.43,110.5) -635.43,92 -640.55,92 ; -180,-50 285,-50 285,50 -180,50 -180,-50
  lines w8: -1076.38,-317.72 -843.7,-317.72 ; -1076.38,-256.69 -843.7,-256.69 ; -906.69,-203.54 -778.74,-203.54 cw(c-778.74,-282.31) -700,-280.31 -700,-305.91 ccw(c-660.58,-305.91) -658.66,-345.28 ; -1395.28,-328.35 -1395.28,-244.09 cw(c-1355.91,-244.09) -1355.91,-204.72 -1117.72,-204.72 cw(c-1117.72,-244.09) -1078.35,-244.09 -1078.35,-328.35 cw(c-1117.72,-328.35) -1117.72,-367.72 -1355.91,-367.72 cw(c-1355.91,-328.35) -1395.28,-328.35 ; -911.02,-305.91 ccw(c-871.65,-305.91) -871.65,-345.28 741,-345.28 ccw(c741.32,-305.59) 781,-305.91 781,306 ccw(c741,306) 741,346 -871.65,346 ccw(c-871.34,306.31) -911.02,306 -911.02,-305.91
  text "222-3343-00" at 245,20 h34
Mechanical 16:
  lines w4: -535,-260 -535,-80 ; -535,80 -535,260 ; -465,-260 -465,-80 ; -465,80 -465,260 ; -435,-260 -435,-80 ; -435,80 -435,260 ; -365,-260 -365,-80 ; -365,80 -365,260 ; -335,-260 -335,-80 ; -335,80 -335,260 ; -265,-260 -265,-80 ; -265,80 -265,260 ; -235,-260 -235,-80 ; -235,80 -235,260 ; -165,-260 -165,-80 ; -165,80 -165,260 ; -135,-260 -135,-80 ; -135,80 -135,260 ; -65,-260 -65,-80 ; -65,80 -65,260 ; -35,-260 -35,-80 ; -35,80 -35,260 ; 35,-260 35,-80 ; 35,80 35,260 ; 65,-260 65,-80 ; 65,80 65,260 ; 135,-260 135,-80 ; 135,80 135,260 ; 165,-260 165,-80 ; 165,80 165,260 ; 235,-260 235,-80 ; 235,80 235,260 ; 265,-260 265,-80 ; 265,80 265,260 ; 335,-260 335,-80 ; 335,80 335,260 ; 365,-260 365,-80 ; 365,80 365,260 ; 435,-260 435,-80 ; 435,80 435,260 ; 465,-260 465,-80 ; 465,80 465,260 ; 535,-260 535,-80 ; 535,80 535,260

## 224-1275-00-0602J [mil]
pads (26):
  round 79 hole 79: 1(-874.02,0) 1(737,0)
  oval 54x108 hole 36: 1(-550,-300) 2(-450,-300) 3(-350,-300) 4(-250,-300) 5(-150,-300) 6(-50,-300) 7(50,-300) 8(150,-300) 9(250,-300) 10(350,-300) 11(450,-300) 12(550,-300) 13(550,300) 14(450,300) 15(350,300) 16(250,300) 17(150,300) 18(50,300) 19(-50,300) 20(-150,300) 21(-250,300) 22(-350,300) 23(-450,300) 24(-550,300)
Top Overlay:
  circle w4: c-874.41,0 r61
  circle w8: c-891.73,-386.22 r82
  circle w4: c736,0 r61
  lines w4: -883.86,-11.81 ccw(c-886.61,-11.81) -886.61,-9.06 -907.87,-9.06 cw(c-907.87,0) -916.93,0 cw(c-907.4,0.47) -907.87,10 -886.22,10 ccw(c-885.84,12.38) -883.46,12 ; -883.46,-11.81 -883.46,-33.46 ccw(c-874.41,-33.46) -874.41,-42.52 ccw(c-874.41,-33.46) -865.35,-33.46 -865.35,-12.2 ; -883.46,13 -883.46,34 cw(c-874.44,33.97) -874.41,43 cw(c-874.38,33.97) -865.35,34 -865.35,12 ccw(c-862.98,12.38) -862.6,10 ; -865.35,-11.81 cw(c-862.6,-11.81) -862.6,-9.06 -840.94,-9.06 ccw(c-840.94,0) -831.89,0 ccw(c-841.42,0.47) -840.94,10 -862.2,10 ; -709.45,143 -668.11,143 -668.11,165 ; -708.66,-115.75 -708.66,-84.65 ; -708.66,-46.46 -708.66,-74.02 -667.72,-74.02 -667.72,-45.28 ; -708.66,-33.07 -667.72,-4.72 ; -708.66,-4.72 -667.72,-33.07 ; -708.66,5 -708.66,36 ; -708.27,-100 -667.72,-100 ; -707.87,21 -667.72,21 ; -697.24,188 cw(c-694.51,200.38) -707.09,202 cw(c-698.77,200.56) -702.76,208 cw(c-696.45,197.98) -692.13,209 cw(c-695.01,201.96) -687.4,202 ; -688.58,-72.44 -688.58,-48.82 ; -687.4,199 -687.4,202 ; -676.77,187 ccw(c-676.46,195.96) -667.72,194 ccw(c-691.96,199.2) -667.32,202 ccw(c-679.13,200.78) -671.65,210 ccw(c-677.17,202.01) -682.68,210 ccw(c-678.04,201.87) -687.4,202 ; -667.72,223 -708.27,223 -667.72,242 -708.66,261 -667.72,261 ; 727,12 cw(c725,12) 725,10 703,10 ccw(c703.5,0.5) 694,0 ccw(c703.03,-0.03) 703,-9.06 724,-9.06 cw(c724.12,-11.93) 727,-11.81 727,-33.46 ccw(c736.03,-33.49) 736,-42.52 ccw(c735.97,-33.49) 745,-33.46 745,-12.2 ; 727,13 727,34 cw(c736,34) 736,43 cw(c736,34) 745,34 745,12 ccw(c747.5,12.5) 748,10 ; 745,-11.81 cw(c747.88,-11.93) 748,-9.06 770,-9.06 ccw(c769.97,-0.03) 779,0 ccw(c769.5,0.5) 770,10 749,10 ; -615,-400 615,-400 ; -615,-400 -615,-80 615,-80 615,-400 ; -615,-400 -585,-360 585,-360 615,-400 ; -615,400 -615,80 615,80 615,400 ; -615,400 615,400 ; -615,400 -585,360 585,360 615,400 ; -690.55,44 cw(c-690.55,62.5) -690.55,81 -685.43,81 cw(c-685.43,62.5) -685.43,44 -690.55,44 ; -690.55,92 cw(c-690.55,110.5) -690.55,129 -685.43,129 cw(c-685.43,110.5) -685.43,92 -690.55,92 ; -230,-50 235,-50 235,50 -230,50 -230,-50
  lines w8: -1126.38,-417.72 -893.7,-417.72 ; -1126.38,-356.69 -893.7,-356.69 ; -956.69,-303.54 -828.74,-303.54 cw(c-828.74,-382.31) -750,-380.31 -750,-405.91 ccw(c-710.58,-405.91) -708.66,-445.28 ; -1445.28,-428.35 -1445.28,-344.09 cw(c-1405.91,-344.09) -1405.91,-304.72 -1167.72,-304.72 cw(c-1167.72,-344.09) -1128.35,-344.09 -1128.35,-428.35 cw(c-1167.72,-428.35) -1167.72,-467.72 -1405.91,-467.72 cw(c-1405.91,-428.35) -1445.28,-428.35 ; -961.02,-405.91 ccw(c-921.65,-405.91) -921.65,-445.28 791,-445.28 ccw(c791.32,-405.59) 831,-405.91 831,406 ccw(c791,406) 791,446 -921.65,446 ccw(c-921.34,406.31) -961.02,406 -961.02,-405.91
  text "224-1275-00" at 195,20 h34
Mechanical 16:
  lines w4: -585,-360 -585,-80 ; -585,80 -585,360 ; -515,-360 -515,-80 ; -515,80 -515,360 ; -485,-360 -485,-80 ; -485,80 -485,360 ; -415,-360 -415,-80 ; -415,80 -415,360 ; -385,-360 -385,-80 ; -385,80 -385,360 ; -315,-360 -315,-80 ; -315,80 -315,360 ; -285,-360 -285,-80 ; -285,80 -285,360 ; -215,-360 -215,-80 ; -215,80 -215,360 ; -185,-360 -185,-80 ; -185,80 -185,360 ; -115,-360 -115,-80 ; -115,80 -115,360 ; -85,-360 -85,-80 ; -85,80 -85,360 ; -15,-360 -15,-80 ; -15,80 -15,360 ; 15,-360 15,-80 ; 15,80 15,360 ; 85,-360 85,-80 ; 85,80 85,360 ; 115,-360 115,-80 ; 115,80 115,360 ; 185,-360 185,-80 ; 185,80 185,360 ; 215,-360 215,-80 ; 215,80 215,360 ; 285,-360 285,-80 ; 285,80 285,360 ; 315,-360 315,-80 ; 315,80 315,360 ; 385,-360 385,-80 ; 385,80 385,360 ; 415,-360 415,-80 ; 415,80 415,360 ; 485,-360 485,-80 ; 485,80 485,360 ; 515,-360 515,-80 ; 515,80 515,360 ; 585,-360 585,-80 ; 585,80 585,360

## 224-5248-00-0602J [mil]
pads (26):
  round 79 hole 79: 1(-874.02,0) 1(737,0)
  oval 54x108 hole 36: 1(-550,-150) 2(-450,-150) 3(-350,-150) 4(-250,-150) 5(-150,-150) 6(-50,-150) 7(50,-150) 8(150,-150) 9(250,-150) 10(350,-150) 11(450,-150) 12(550,-150) 13(550,150) 14(450,150) 15(350,150) 16(250,150) 17(150,150) 18(50,150) 19(-50,150) 20(-150,150) 21(-250,150) 22(-350,150) 23(-450,150) 24(-550,150)
Top Overlay:
  circle w4: c-874.41,0 r61
  circle w8: c-891.73,-236.22 r82
  circle w4: c736,0 r61
  lines w4: -883.86,-11.81 ccw(c-886.61,-11.81) -886.61,-9.06 -907.87,-9.06 cw(c-907.87,0) -916.93,0 cw(c-907.4,0.47) -907.87,10 -886.22,10 ccw(c-885.84,12.38) -883.46,12 ; -883.46,-11.81 -883.46,-33.46 ccw(c-874.41,-33.46) -874.41,-42.52 ccw(c-874.41,-33.46) -865.35,-33.46 -865.35,-12.2 ; -883.46,13 -883.46,34 cw(c-874.44,33.97) -874.41,43 cw(c-874.38,33.97) -865.35,34 -865.35,12 ccw(c-862.98,12.38) -862.6,10 ; -865.35,-11.81 cw(c-862.6,-11.81) -862.6,-9.06 -840.94,-9.06 ccw(c-840.94,0) -831.89,0 ccw(c-841.42,0.47) -840.94,10 -862.2,10 ; -709.45,143 -668.11,143 -668.11,165 ; -708.66,-115.75 -708.66,-84.65 ; -708.66,-46.46 -708.66,-74.02 -667.72,-74.02 -667.72,-45.28 ; -708.66,-33.07 -667.72,-4.72 ; -708.66,-4.72 -667.72,-33.07 ; -708.66,5 -708.66,36 ; -708.27,-100 -667.72,-100 ; -707.87,21 -667.72,21 ; -697.24,188 cw(c-694.51,200.38) -707.09,202 cw(c-698.77,200.56) -702.76,208 cw(c-696.45,197.98) -692.13,209 cw(c-695.01,201.96) -687.4,202 ; -688.58,-72.44 -688.58,-48.82 ; -687.4,199 -687.4,202 ; -676.77,187 ccw(c-676.46,195.96) -667.72,194 ccw(c-691.96,199.2) -667.32,202 ccw(c-679.13,200.78) -671.65,210 ccw(c-677.17,202.01) -682.68,210 ccw(c-678.04,201.87) -687.4,202 ; -667.72,223 -708.27,223 -667.72,242 -708.66,261 -667.72,261 ; 727,12 cw(c725,12) 725,10 703,10 ccw(c703.5,0.5) 694,0 ccw(c703.03,-0.03) 703,-9.06 724,-9.06 cw(c724.12,-11.93) 727,-11.81 727,-33.46 ccw(c736.03,-33.49) 736,-42.52 ccw(c735.97,-33.49) 745,-33.46 745,-12.2 ; 727,13 727,34 cw(c736,34) 736,43 cw(c736,34) 745,34 745,12 ccw(c747.5,12.5) 748,10 ; 745,-11.81 cw(c747.88,-11.93) 748,-9.06 770,-9.06 ccw(c769.97,-0.03) 779,0 ccw(c769.5,0.5) 770,10 749,10 ; -615,-250 615,-250 ; -615,-250 -615,-80 615,-80 615,-250 ; -615,-250 -585,-210 585,-210 615,-250 ; -615,250 -615,80 615,80 615,250 ; -615,250 615,250 ; -615,250 -585,210 585,210 615,250 ; -690.55,44 cw(c-690.55,62.5) -690.55,81 -685.43,81 cw(c-685.43,62.5) -685.43,44 -690.55,44 ; -690.55,92 cw(c-690.55,110.5) -690.55,129 -685.43,129 cw(c-685.43,110.5) -685.43,92 -690.55,92 ; -230,-50 235,-50 235,50 -230,50 -230,-50
  lines w8: -1126.38,-267.72 -893.7,-267.72 ; -1126.38,-206.69 -893.7,-206.69 ; -956.69,-153.54 -828.74,-153.54 cw(c-828.74,-232.31) -750,-230.31 -750,-255.91 ccw(c-710.58,-255.91) -708.66,-295.28 ; -1445.28,-278.35 -1445.28,-194.09 cw(c-1405.91,-194.09) -1405.91,-154.72 -1167.72,-154.72 cw(c-1167.72,-194.09) -1128.35,-194.09 -1128.35,-278.35 cw(c-1167.72,-278.35) -1167.72,-317.72 -1405.91,-317.72 cw(c-1405.91,-278.35) -1445.28,-278.35 ; -961.02,-255.91 ccw(c-921.65,-255.91) -921.65,-295.28 791,-295.28 ccw(c791.32,-255.59) 831,-255.91 831,256 ccw(c791,256) 791,296 -921.65,296 ccw(c-921.34,256.31) -961.02,256 -961.02,-255.91
  text "224-5248-00" at 195,20 h34
Mechanical 16:
  lines w4: -585,-210 -585,-80 ; -585,80 -585,210 ; -515,-210 -515,-80 ; -515,80 -515,210 ; -485,-210 -485,-80 ; -485,80 -485,210 ; -415,-210 -415,-80 ; -415,80 -415,210 ; -385,-210 -385,-80 ; -385,80 -385,210 ; -315,-210 -315,-80 ; -315,80 -315,210 ; -285,-210 -285,-80 ; -285,80 -285,210 ; -215,-210 -215,-80 ; -215,80 -215,210 ; -185,-210 -185,-80 ; -185,80 -185,210 ; -115,-210 -115,-80 ; -115,80 -115,210 ; -85,-210 -85,-80 ; -85,80 -85,210 ; -15,-210 -15,-80 ; -15,80 -15,210 ; 15,-210 15,-80 ; 15,80 15,210 ; 85,-210 85,-80 ; 85,80 85,210 ; 115,-210 115,-80 ; 115,80 115,210 ; 185,-210 185,-80 ; 185,80 185,210 ; 215,-210 215,-80 ; 215,80 215,210 ; 285,-210 285,-80 ; 285,80 285,210 ; 315,-210 315,-80 ; 315,80 315,210 ; 385,-210 385,-80 ; 385,80 385,210 ; 415,-210 415,-80 ; 415,80 415,210 ; 485,-210 485,-80 ; 485,80 485,210 ; 515,-210 515,-80 ; 515,80 515,210 ; 585,-210 585,-80 ; 585,80 585,210

## 228-1277-00-0602J [mil]
pads (30):
  round 79 hole 79: 1(-974.02,0) 1(837,0)
  oval 54x108 hole 36: 1(-650,-300) 2(-550,-300) 3(-450,-300) 4(-350,-300) 5(-250,-300) 6(-150,-300) 7(-50,-300) 8(50,-300) 9(150,-300) 10(250,-300) 11(350,-300) 12(450,-300) 13(550,-300) 14(650,-300) 15(650,300) 16(550,300) 17(450,300) 18(350,300) 19(250,300) 20(150,300) 21(50,300) 22(-50,300) 23(-150,300) 24(-250,300) 25(-350,300) 26(-450,300) 27(-550,300) 28(-650,300)
Top Overlay:
  circle w4: c-974.41,0 r61
  circle w8: c-991.73,-386.22 r82
  circle w4: c836,0 r61
  lines w4: -983.86,-11.81 ccw(c-986.61,-11.81) -986.61,-9.06 -1007.87,-9.06 cw(c-1007.87,0) -1016.93,0 cw(c-1007.4,0.47) -1007.87,10 -986.22,10 ccw(c-985.84,12.38) -983.46,12 ; -983.46,-11.81 -983.46,-33.46 ccw(c-974.41,-33.46) -974.41,-42.52 ccw(c-974.41,-33.46) -965.35,-33.46 -965.35,-12.2 ; -983.46,13 -983.46,34 cw(c-974.44,33.97) -974.41,43 cw(c-974.38,33.97) -965.35,34 -965.35,12 ccw(c-962.98,12.38) -962.6,10 ; -965.35,-11.81 cw(c-962.6,-11.81) -962.6,-9.06 -940.94,-9.06 ccw(c-940.94,0) -931.89,0 ccw(c-941.42,0.47) -940.94,10 -962.2,10 ; -809.45,143 -768.11,143 -768.11,165 ; -808.66,-115.75 -808.66,-84.65 ; -808.66,-46.46 -808.66,-74.02 -767.72,-74.02 -767.72,-45.28 ; -808.66,-33.07 -767.72,-4.72 ; -808.66,-4.72 -767.72,-33.07 ; -808.66,5 -808.66,36 ; -808.27,-100 -767.72,-100 ; -807.87,21 -767.72,21 ; -797.24,188 cw(c-794.51,200.38) -807.09,202 cw(c-798.77,200.56) -802.76,208 cw(c-796.45,197.98) -792.13,209 cw(c-795.01,201.96) -787.4,202 ; -788.58,-72.44 -788.58,-48.82 ; -787.4,199 -787.4,202 ; -776.77,187 ccw(c-776.46,195.96) -767.72,194 ccw(c-791.96,199.2) -767.32,202 ccw(c-779.13,200.78) -771.65,210 ccw(c-777.17,202.01) -782.68,210 ccw(c-778.04,201.87) -787.4,202 ; -767.72,223 -808.27,223 -767.72,242 -808.66,261 -767.72,261 ; 827,12 cw(c825,12) 825,10 803,10 ccw(c803.5,0.5) 794,0 ccw(c803.03,-0.03) 803,-9.06 824,-9.06 cw(c824.12,-11.93) 827,-11.81 827,-33.46 ccw(c836.03,-33.49) 836,-42.52 ccw(c835.97,-33.49) 845,-33.46 845,-12.2 ; 827,13 827,34 cw(c836,34) 836,43 cw(c836,34) 845,34 845,12 ccw(c847.5,12.5) 848,10 ; 845,-11.81 cw(c847.88,-11.93) 848,-9.06 870,-9.06 ccw(c869.97,-0.03) 879,0 ccw(c869.5,0.5) 870,10 849,10 ; -715,-400 715,-400 ; -715,-400 -715,-80 715,-80 715,-400 ; -715,-400 -685,-360 685,-360 715,-400 ; -715,400 -715,80 715,80 715,400 ; -715,400 715,400 ; -715,400 -685,360 685,360 715,400 ; -790.55,44 cw(c-790.55,62.5) -790.55,81 -785.43,81 cw(c-785.43,62.5) -785.43,44 -790.55,44 ; -790.55,92 cw(c-790.55,110.5) -790.55,129 -785.43,129 cw(c-785.43,110.5) -785.43,92 -790.55,92 ; -330,-50 135,-50 135,50 -330,50 -330,-50
  lines w8: -1226.38,-417.72 -993.7,-417.72 ; -1226.38,-356.69 -993.7,-356.69 ; -1056.69,-303.54 -928.74,-303.54 cw(c-928.74,-382.31) -850,-380.31 -850,-405.91 ccw(c-810.58,-405.91) -808.66,-445.28 ; -1545.28,-428.35 -1545.28,-344.09 cw(c-1505.91,-344.09) -1505.91,-304.72 -1267.72,-304.72 cw(c-1267.72,-344.09) -1228.35,-344.09 -1228.35,-428.35 cw(c-1267.72,-428.35) -1267.72,-467.72 -1505.91,-467.72 cw(c-1505.91,-428.35) -1545.28,-428.35 ; -1061.02,-405.91 ccw(c-1021.65,-405.91) -1021.65,-445.28 891,-445.28 ccw(c891.32,-405.59) 931,-405.91 931,406 ccw(c891,406) 891,446 -1021.65,446 ccw(c-1021.34,406.31) -1061.02,406 -1061.02,-405.91
  text "228-1277-00" at 95,20 h34
Mechanical 16:
  lines w4: -685,-360 -685,-80 ; -685,80 -685,360 ; -615,-360 -615,-80 ; -615,80 -615,360 ; -585,-360 -585,-80 ; -585,80 -585,360 ; -515,-360 -515,-80 ; -515,80 -515,360 ; -485,-360 -485,-80 ; -485,80 -485,360 ; -415,-360 -415,-80 ; -415,80 -415,360 ; -385,-360 -385,-80 ; -385,80 -385,360 ; -315,-360 -315,-80 ; -315,80 -315,360 ; -285,-360 -285,-80 ; -285,80 -285,360 ; -215,-360 -215,-80 ; -215,80 -215,360 ; -185,-360 -185,-80 ; -185,80 -185,360 ; -115,-360 -115,-80 ; -115,80 -115,360 ; -85,-360 -85,-80 ; -85,80 -85,360 ; -15,-360 -15,-80 ; -15,80 -15,360 ; 15,-360 15,-80 ; 15,80 15,360 ; 85,-360 85,-80 ; 85,80 85,360 ; 115,-360 115,-80 ; 115,80 115,360 ; 185,-360 185,-80 ; 185,80 185,360 ; 215,-360 215,-80 ; 215,80 215,360 ; 285,-360 285,-80 ; 285,80 285,360 ; 315,-360 315,-80 ; 315,80 315,360 ; 385,-360 385,-80 ; 385,80 385,360 ; 415,-360 415,-80 ; 415,80 415,360 ; 485,-360 485,-80 ; 485,80 485,360 ; 515,-360 515,-80 ; 515,80 515,360 ; 585,-360 585,-80 ; 585,80 585,360 ; 615,-360 615,-80 ; 615,80 615,360 ; 685,-360 685,-80 ; 685,80 685,360

## 228-4817-00-0602J [mil]
pads (30):
  round 79 hole 79: 1(-974.02,0) 1(837,0)
  oval 54x108 hole 36: 1(-650,-200) 2(-550,-200) 3(-450,-200) 4(-350,-200) 5(-250,-200) 6(-150,-200) 7(-50,-200) 8(50,-200) 9(150,-200) 10(250,-200) 11(350,-200) 12(450,-200) 13(550,-200) 14(650,-200) 15(650,200) 16(550,200) 17(450,200) 18(350,200) 19(250,200) 20(150,200) 21(50,200) 22(-50,200) 23(-150,200) 24(-250,200) 25(-350,200) 26(-450,200) 27(-550,200) 28(-650,200)
Top Overlay:
  circle w4: c-974.41,0 r61
  circle w8: c-991.73,-286.22 r82
  circle w4: c836,0 r61
  lines w4: -983.86,-11.81 ccw(c-986.61,-11.81) -986.61,-9.06 -1007.87,-9.06 cw(c-1007.87,0) -1016.93,0 cw(c-1007.4,0.47) -1007.87,10 -986.22,10 ccw(c-985.84,12.38) -983.46,12 ; -983.46,-11.81 -983.46,-33.46 ccw(c-974.41,-33.46) -974.41,-42.52 ccw(c-974.41,-33.46) -965.35,-33.46 -965.35,-12.2 ; -983.46,13 -983.46,34 cw(c-974.44,33.97) -974.41,43 cw(c-974.38,33.97) -965.35,34 -965.35,12 ccw(c-962.98,12.38) -962.6,10 ; -965.35,-11.81 cw(c-962.6,-11.81) -962.6,-9.06 -940.94,-9.06 ccw(c-940.94,0) -931.89,0 ccw(c-941.42,0.47) -940.94,10 -962.2,10 ; -809.45,143 -768.11,143 -768.11,165 ; -808.66,-115.75 -808.66,-84.65 ; -808.66,-46.46 -808.66,-74.02 -767.72,-74.02 -767.72,-45.28 ; -808.66,-33.07 -767.72,-4.72 ; -808.66,-4.72 -767.72,-33.07 ; -808.66,5 -808.66,36 ; -808.27,-100 -767.72,-100 ; -807.87,21 -767.72,21 ; -797.24,188 cw(c-794.51,200.38) -807.09,202 cw(c-798.77,200.56) -802.76,208 cw(c-796.45,197.98) -792.13,209 cw(c-795.01,201.96) -787.4,202 ; -788.58,-72.44 -788.58,-48.82 ; -787.4,199 -787.4,202 ; -776.77,187 ccw(c-776.46,195.96) -767.72,194 ccw(c-791.96,199.2) -767.32,202 ccw(c-779.13,200.78) -771.65,210 ccw(c-777.17,202.01) -782.68,210 ccw(c-778.04,201.87) -787.4,202 ; -767.72,223 -808.27,223 -767.72,242 -808.66,261 -767.72,261 ; 827,12 cw(c825,12) 825,10 803,10 ccw(c803.5,0.5) 794,0 ccw(c803.03,-0.03) 803,-9.06 824,-9.06 cw(c824.12,-11.93) 827,-11.81 827,-33.46 ccw(c836.03,-33.49) 836,-42.52 ccw(c835.97,-33.49) 845,-33.46 845,-12.2 ; 827,13 827,34 cw(c836,34) 836,43 cw(c836,34) 845,34 845,12 ccw(c847.5,12.5) 848,10 ; 845,-11.81 cw(c847.88,-11.93) 848,-9.06 870,-9.06 ccw(c869.97,-0.03) 879,0 ccw(c869.5,0.5) 870,10 849,10 ; -715,-300 715,-300 ; -715,-300 -715,-80 715,-80 715,-300 ; -715,-300 -685,-260 685,-260 715,-300 ; -715,300 -715,80 715,80 715,300 ; -715,300 715,300 ; -715,300 -685,260 685,260 715,300 ; -790.55,44 cw(c-790.55,62.5) -790.55,81 -785.43,81 cw(c-785.43,62.5) -785.43,44 -790.55,44 ; -790.55,92 cw(c-790.55,110.5) -790.55,129 -785.43,129 cw(c-785.43,110.5) -785.43,92 -790.55,92 ; -330,-50 135,-50 135,50 -330,50 -330,-50
  lines w8: -1226.38,-317.72 -993.7,-317.72 ; -1226.38,-256.69 -993.7,-256.69 ; -1056.69,-203.54 -928.74,-203.54 cw(c-928.74,-282.31) -850,-280.31 -850,-305.91 ccw(c-810.58,-305.91) -808.66,-345.28 ; -1545.28,-328.35 -1545.28,-244.09 cw(c-1505.91,-244.09) -1505.91,-204.72 -1267.72,-204.72 cw(c-1267.72,-244.09) -1228.35,-244.09 -1228.35,-328.35 cw(c-1267.72,-328.35) -1267.72,-367.72 -1505.91,-367.72 cw(c-1505.91,-328.35) -1545.28,-328.35 ; -1061.02,-305.91 ccw(c-1021.65,-305.91) -1021.65,-345.28 891,-345.28 ccw(c891.32,-305.59) 931,-305.91 931,306 ccw(c891,306) 891,346 -1021.65,346 ccw(c-1021.34,306.31) -1061.02,306 -1061.02,-305.91
  text "228-4817-00" at 95,20 h34
Mechanical 16:
  lines w4: -685,-260 -685,-80 ; -685,80 -685,260 ; -615,-260 -615,-80 ; -615,80 -615,260 ; -585,-260 -585,-80 ; -585,80 -585,260 ; -515,-260 -515,-80 ; -515,80 -515,260 ; -485,-260 -485,-80 ; -485,80 -485,260 ; -415,-260 -415,-80 ; -415,80 -415,260 ; -385,-260 -385,-80 ; -385,80 -385,260 ; -315,-260 -315,-80 ; -315,80 -315,260 ; -285,-260 -285,-80 ; -285,80 -285,260 ; -215,-260 -215,-80 ; -215,80 -215,260 ; -185,-260 -185,-80 ; -185,80 -185,260 ; -115,-260 -115,-80 ; -115,80 -115,260 ; -85,-260 -85,-80 ; -85,80 -85,260 ; -15,-260 -15,-80 ; -15,80 -15,260 ; 15,-260 15,-80 ; 15,80 15,260 ; 85,-260 85,-80 ; 85,80 85,260 ; 115,-260 115,-80 ; 115,80 115,260 ; 185,-260 185,-80 ; 185,80 185,260 ; 215,-260 215,-80 ; 215,80 215,260 ; 285,-260 285,-80 ; 285,80 285,260 ; 315,-260 315,-80 ; 315,80 315,260 ; 385,-260 385,-80 ; 385,80 385,260 ; 415,-260 415,-80 ; 415,80 415,260 ; 485,-260 485,-80 ; 485,80 485,260 ; 515,-260 515,-80 ; 515,80 515,260 ; 585,-260 585,-80 ; 585,80 585,260 ; 615,-260 615,-80 ; 615,80 615,260 ; 685,-260 685,-80 ; 685,80 685,260